# Altium schematic symbol library sch_lib1.SchLib: 8 symbols
Pins are listed as number, name and electrical type; pins without a type are passive.

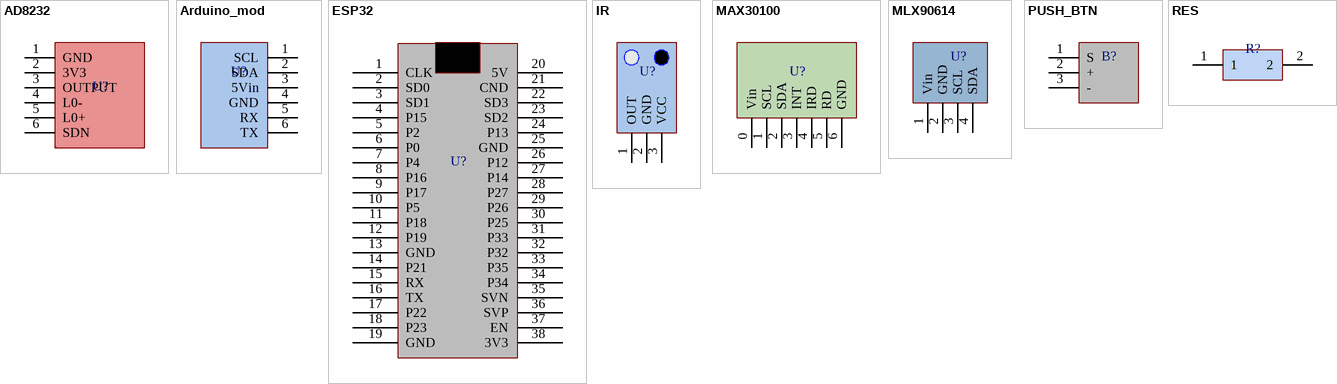
[diagram p0: symbols AD8232 to RES]

## AD8232
designator U?
footprint AD8232
pins: 1 GND, 2 3V3, 3 OUTPUT, 4 L0-, 5 L0+, 6 SDN

## Arduino_mod
designator U?
pins: 1 SCL, 2 SDA, 3 5Vin, 4 GND, 5 RX, 6 TX

## ESP32
designator U?
footprint ESP32
pins: 1 CLK, 2 SD0, 3 SD1, 4 P15, 5 P2, 6 P0, 7 P4, 8 P16, 9 P17, 10 P5, 11 P18, 12 P19, 13 GND, 14 P21, 15 RX, 16 TX, 17 P22, 18 P23, 19 GND, 20 5V, 21 CND, 22 SD3, 23 SD2, 24 P13, 25 GND, 26 P12, 27 P14, 28 P27, 29 P26, 30 P25, 31 P33, 32 P32, 33 P35, 34 P34, 35 SVN, 36 SVP, 37 EN, 38 3V3

## IR
designator U?
footprint IR
pins: 1 OUT, 2 GND, 3 VCC

## MAX30100
designator U?
footprint MAX30100
pins: 0 Vin, 1 SCL, 2 SDA, 3 INT, 4 IRD, 5 RD, 6 GND

## MLX90614
designator U?
footprint MLX90614
pins: 1 Vin, 2 GND, 3 SCL, 4 SDA

## PUSH_BTN
designator B?
footprint PUSH_BTN
pins: 1 S, 2 +, 3 -

## RES
designator R?
footprint RES
pins: 1, 2